# Altium schematic symbol library jlcpcb_2025_04_resistors_extended_1812.schlib: 557 symbols (part 1 of 9)
Pins are listed as number, name and electrical type; pins without a type are passive.

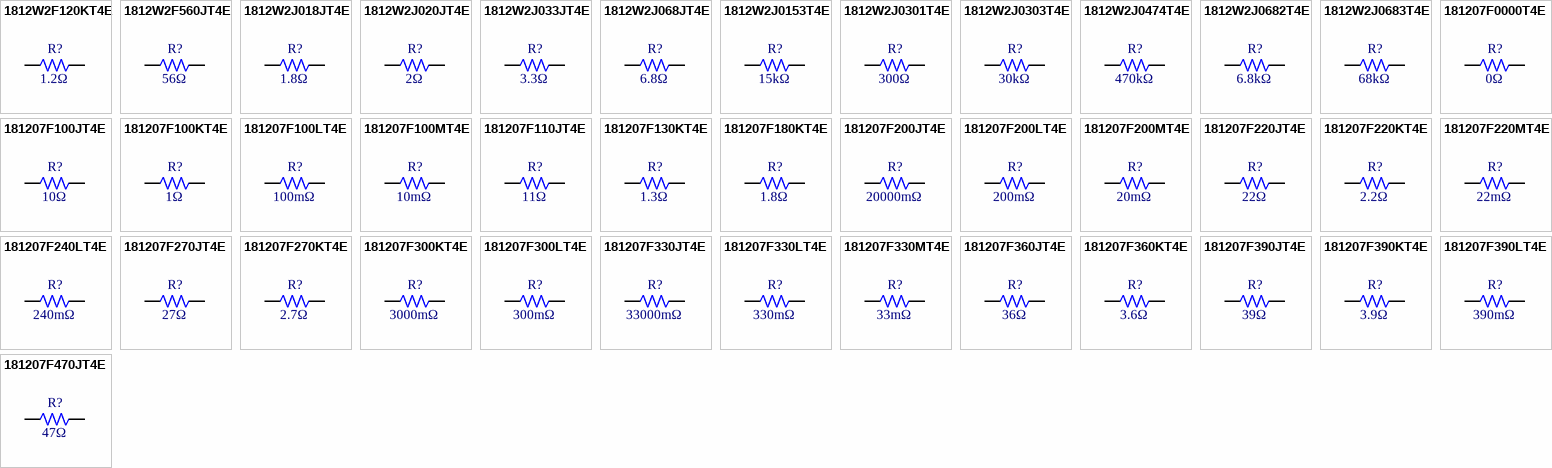
[diagram p0: symbols 1812W2F120KT4E to 181207F470JT4E]

## 1812W2F120KT4E
designator R?  Resistance: 1.2Ω  (hidden comment: *)
Resistor, 1.2Ω, ±1%, 500mW, 200V, ±200ppm/℃, -55℃~+155℃, SMD 1812; Manufacturer: Uniroyal; Manufacturer Part Number: 1812W2F120KT4E; Supplier 1: LCSC; Supplier Part Number 1: C21617; JLCPCB Part Number: C21617; Power Rating: 500mW; Category: Resistors; Package Size: 1812; JLCPCB Basic Part: Yes; Tolerance: ±1%; Voltage Rating: 200V; Temperature Coefficient: ±200ppm/℃; Temperature Rating: -55℃~+155℃; ComponentLink1Description: Datasheet; ComponentLink1URL: https://wmsc.lcsc.com/wmsc/upload/file/pdf/v2/lcsc/2206010130_UNI-ROYAL-Uniroyal-Elec-1812W2F120KT4E_C21617.pdf; ComponentLink2Description: JLCPCB Part URL; ComponentLink2URL: https://jlcpcb.com/partdetail/C21617
pins: 1, 2
1 alternate drawing of the same symbol

## 1812W2F560JT4E
designator R?  Resistance: 56Ω  (hidden comment: *)
Resistor, 56Ω, ±1%, 500mW, 200V, ±200ppm/℃, -55℃~+155℃, SMD 1812; Manufacturer: Uniroyal; Manufacturer Part Number: 1812W2F560JT4E; Supplier 1: LCSC; Supplier Part Number 1: C107596; JLCPCB Part Number: C107596; Power Rating: 500mW; Category: Resistors; Package Size: 1812; JLCPCB Basic Part: Yes; Tolerance: ±1%; Voltage Rating: 200V; Temperature Coefficient: ±200ppm/℃; Temperature Rating: -55℃~+155℃; ComponentLink1Description: Datasheet; ComponentLink1URL: https://wmsc.lcsc.com/wmsc/upload/file/pdf/v2/lcsc/2205312316_UNI-ROYAL-Uniroyal-Elec-1812W2F560JT4E_C107596.pdf; ComponentLink2Description: JLCPCB Part URL; ComponentLink2URL: https://jlcpcb.com/partdetail/C107596
pins: 1, 2
1 alternate drawing of the same symbol

## 1812W2J018JT4E
designator R?  Resistance: 1.8Ω  (hidden comment: *)
Resistor, 1.8Ω, ±5%, 500mW, 200V, ±200ppm/℃, -55℃~+155℃, SMD 1812; Manufacturer: Uniroyal; Manufacturer Part Number: 1812W2J018JT4E; Supplier 1: LCSC; Supplier Part Number 1: C25455; JLCPCB Part Number: C25455; Power Rating: 500mW; Category: Resistors; Package Size: 1812; JLCPCB Basic Part: Yes; Tolerance: ±5%; Voltage Rating: 200V; Temperature Coefficient: ±200ppm/℃; Temperature Rating: -55℃~+155℃; ComponentLink1Description: Datasheet; ComponentLink1URL: https://wmsc.lcsc.com/wmsc/upload/file/pdf/v2/lcsc/2205311845_UNI-ROYAL-Uniroyal-Elec-1812W2J018JT4E_C25455.pdf; ComponentLink2Description: JLCPCB Part URL; ComponentLink2URL: https://jlcpcb.com/partdetail/C25455
pins: 1, 2
1 alternate drawing of the same symbol

## 1812W2J020JT4E
designator R?  Resistance: 2Ω  (hidden comment: *)
Resistor, 2Ω, ±5%, 500mW, 200V, ±200ppm/℃, -55℃~+155℃, SMD 1812; Manufacturer: Uniroyal; Manufacturer Part Number: 1812W2J020JT4E; Supplier 1: LCSC; Supplier Part Number 1: C61435; JLCPCB Part Number: C61435; Power Rating: 500mW; Category: Resistors; Package Size: 1812; JLCPCB Basic Part: Yes; Tolerance: ±5%; Voltage Rating: 200V; Temperature Coefficient: ±200ppm/℃; Temperature Rating: -55℃~+155℃; ComponentLink1Description: Datasheet; ComponentLink1URL: https://wmsc.lcsc.com/wmsc/upload/file/pdf/v2/lcsc/2205312345_UNI-ROYAL-Uniroyal-Elec-1812W2J020JT4E_C61435.pdf; ComponentLink2Description: JLCPCB Part URL; ComponentLink2URL: https://jlcpcb.com/partdetail/C61435
pins: 1, 2
1 alternate drawing of the same symbol

## 1812W2J033JT4E
designator R?  Resistance: 3.3Ω  (hidden comment: *)
Resistor, 3.3Ω, ±5%, 500mW, 200V, ±200ppm/℃, -55℃~+155℃, SMD 1812; Manufacturer: Uniroyal; Manufacturer Part Number: 1812W2J033JT4E; Supplier 1: LCSC; Supplier Part Number 1: C61431; JLCPCB Part Number: C61431; Power Rating: 500mW; Category: Resistors; Package Size: 1812; JLCPCB Basic Part: Yes; Tolerance: ±5%; Voltage Rating: 200V; Temperature Coefficient: ±200ppm/℃; Temperature Rating: -55℃~+155℃; ComponentLink1Description: Datasheet; ComponentLink1URL: https://wmsc.lcsc.com/wmsc/upload/file/pdf/v2/lcsc/2205312345_UNI-ROYAL-Uniroyal-Elec-1812W2J033JT4E_C61431.pdf; ComponentLink2Description: JLCPCB Part URL; ComponentLink2URL: https://jlcpcb.com/partdetail/C61431
pins: 1, 2
1 alternate drawing of the same symbol

## 1812W2J068JT4E
designator R?  Resistance: 6.8Ω  (hidden comment: *)
Resistor, 6.8Ω, ±5%, 500mW, 200V, ±400ppm/℃, -55℃~+155℃, SMD 1812; Manufacturer: Uniroyal; Manufacturer Part Number: 1812W2J068JT4E; Supplier 1: LCSC; Supplier Part Number 1: C25457; JLCPCB Part Number: C25457; Power Rating: 500mW; Category: Resistors; Package Size: 1812; JLCPCB Basic Part: Yes; Tolerance: ±5%; Voltage Rating: 200V; Temperature Coefficient: ±400ppm/℃; Temperature Rating: -55℃~+155℃; ComponentLink1Description: Datasheet; ComponentLink1URL: https://wmsc.lcsc.com/wmsc/upload/file/pdf/v2/lcsc/2205311845_UNI-ROYAL-Uniroyal-Elec-1812W2J068JT4E_C25457.pdf; ComponentLink2Description: JLCPCB Part URL; ComponentLink2URL: https://jlcpcb.com/partdetail/C25457
pins: 1, 2
1 alternate drawing of the same symbol

## 1812W2J0153T4E
designator R?  Resistance: 15kΩ  (hidden comment: *)
Resistor, 15kΩ, ±5%, 500mW, 200V, ±100ppm/℃, -55℃~+155℃, SMD 1812; Manufacturer: Uniroyal; Manufacturer Part Number: 1812W2J0153T4E; Supplier 1: LCSC; Supplier Part Number 1: C25713; JLCPCB Part Number: C25713; Power Rating: 500mW; Category: Resistors; Package Size: 1812; JLCPCB Basic Part: Yes; Tolerance: ±5%; Voltage Rating: 200V; Temperature Coefficient: ±100ppm/℃; Temperature Rating: -55℃~+155℃; ComponentLink1Description: Datasheet; ComponentLink1URL: https://wmsc.lcsc.com/wmsc/upload/file/pdf/v2/lcsc/2206010100_UNI-ROYAL-Uniroyal-Elec-1812W2J0153T4E_C25713.pdf; ComponentLink2Description: JLCPCB Part URL; ComponentLink2URL: https://jlcpcb.com/partdetail/C25713
pins: 1, 2
1 alternate drawing of the same symbol

## 1812W2J0301T4E
designator R?  Resistance: 300Ω  (hidden comment: *)
Resistor, 300Ω, ±5%, 500mW, 200V, ±100ppm/℃, -55℃~+155℃, SMD 1812; Manufacturer: Uniroyal; Manufacturer Part Number: 1812W2J0301T4E; Supplier 1: LCSC; Supplier Part Number 1: C109215; JLCPCB Part Number: C109215; Power Rating: 500mW; Category: Resistors; Package Size: 1812; JLCPCB Basic Part: Yes; Tolerance: ±5%; Voltage Rating: 200V; Temperature Coefficient: ±100ppm/℃; Temperature Rating: -55℃~+155℃; ComponentLink1Description: Datasheet; ComponentLink1URL: https://wmsc.lcsc.com/wmsc/upload/file/pdf/v2/lcsc/2205312316_UNI-ROYAL-Uniroyal-Elec-1812W2J0301T4E_C109215.pdf; ComponentLink2Description: JLCPCB Part URL; ComponentLink2URL: https://jlcpcb.com/partdetail/C109215
pins: 1, 2
1 alternate drawing of the same symbol

## 1812W2J0303T4E
designator R?  Resistance: 30kΩ  (hidden comment: *)
Resistor, 30kΩ, ±5%, 500mW, 200V, ±100ppm/℃, -55℃~+155℃, SMD 1812; Manufacturer: Uniroyal; Manufacturer Part Number: 1812W2J0303T4E; Supplier 1: LCSC; Supplier Part Number 1: C109214; JLCPCB Part Number: C109214; Power Rating: 500mW; Category: Resistors; Package Size: 1812; JLCPCB Basic Part: Yes; Tolerance: ±5%; Voltage Rating: 200V; Temperature Coefficient: ±100ppm/℃; Temperature Rating: -55℃~+155℃; ComponentLink1Description: Datasheet; ComponentLink1URL: https://wmsc.lcsc.com/wmsc/upload/file/pdf/v2/lcsc/2205312316_UNI-ROYAL-Uniroyal-Elec-1812W2J0303T4E_C109214.pdf; ComponentLink2Description: JLCPCB Part URL; ComponentLink2URL: https://jlcpcb.com/partdetail/C109214
pins: 1, 2
1 alternate drawing of the same symbol

## 1812W2J0474T4E
designator R?  Resistance: 470kΩ  (hidden comment: *)
Resistor, 470kΩ, ±5%, 500mW, 200V, ±100ppm/℃, -55℃~+155℃, SMD 1812; Manufacturer: Uniroyal; Manufacturer Part Number: 1812W2J0474T4E; Supplier 1: LCSC; Supplier Part Number 1: C80761; JLCPCB Part Number: C80761; Power Rating: 500mW; Category: Resistors; Package Size: 1812; JLCPCB Basic Part: Yes; Tolerance: ±5%; Voltage Rating: 200V; Temperature Coefficient: ±100ppm/℃; Temperature Rating: -55℃~+155℃; ComponentLink1Description: Datasheet; ComponentLink1URL: https://wmsc.lcsc.com/wmsc/upload/file/pdf/v2/lcsc/2205312316_UNI-ROYAL-Uniroyal-Elec-1812W2J0474T4E_C80761.pdf; ComponentLink2Description: JLCPCB Part URL; ComponentLink2URL: https://jlcpcb.com/partdetail/C80761
pins: 1, 2
1 alternate drawing of the same symbol

## 1812W2J0682T4E
designator R?  Resistance: 6.8kΩ  (hidden comment: *)
Resistor, 6.8kΩ, ±5%, 500mW, 200V, ±100ppm/℃, -55℃~+155℃, SMD 1812; Manufacturer: Uniroyal; Manufacturer Part Number: 1812W2J0682T4E; Supplier 1: LCSC; Supplier Part Number 1: C26070; JLCPCB Part Number: C26070; Power Rating: 500mW; Category: Resistors; Package Size: 1812; JLCPCB Basic Part: Yes; Tolerance: ±5%; Voltage Rating: 200V; Temperature Coefficient: ±100ppm/℃; Temperature Rating: -55℃~+155℃; ComponentLink1Description: Datasheet; ComponentLink1URL: https://wmsc.lcsc.com/wmsc/upload/file/pdf/v2/lcsc/2206010030_UNI-ROYAL-Uniroyal-Elec-1812W2J0682T4E_C26070.pdf; ComponentLink2Description: JLCPCB Part URL; ComponentLink2URL: https://jlcpcb.com/partdetail/C26070
pins: 1, 2
1 alternate drawing of the same symbol

## 1812W2J0683T4E
designator R?  Resistance: 68kΩ  (hidden comment: *)
Resistor, 68kΩ, ±5%, 500mW, 200V, ±100ppm/℃, -55℃~+155℃, SMD 1812; Manufacturer: Uniroyal; Manufacturer Part Number: 1812W2J0683T4E; Supplier 1: LCSC; Supplier Part Number 1: C82936; JLCPCB Part Number: C82936; Power Rating: 500mW; Category: Resistors; Package Size: 1812; JLCPCB Basic Part: Yes; Tolerance: ±5%; Voltage Rating: 200V; Temperature Coefficient: ±100ppm/℃; Temperature Rating: -55℃~+155℃; ComponentLink1Description: Datasheet; ComponentLink1URL: https://wmsc.lcsc.com/wmsc/upload/file/pdf/v2/lcsc/2304140030_UNI-ROYAL-Uniroyal-Elec-1812W2J0683T4E_C82936.pdf; ComponentLink2Description: JLCPCB Part URL; ComponentLink2URL: https://jlcpcb.com/partdetail/C82936
pins: 1, 2
1 alternate drawing of the same symbol

## 181207F0000T4E
designator R?  Resistance: 0Ω  (hidden comment: *)
Resistor, 0Ω, ±1%, 750mW, 200V, -55℃~+155℃, SMD 1812; Manufacturer: Uniroyal; Manufacturer Part Number: 181207F0000T4E; Supplier 1: LCSC; Supplier Part Number 1: C422161; JLCPCB Part Number: C422161; Power Rating: 750mW; Category: Resistors; Package Size: 1812; JLCPCB Basic Part: Yes; Tolerance: ±1%; Voltage Rating: 200V; Temperature Rating: -55℃~+155℃; ComponentLink1Description: Datasheet; ComponentLink1URL: https://wmsc.lcsc.com/wmsc/upload/file/pdf/v2/lcsc/2304140030_UNI-ROYAL-Uniroyal-Elec-181207F0000T4E_C422161.pdf; ComponentLink2Description: JLCPCB Part URL; ComponentLink2URL: https://jlcpcb.com/partdetail/C422161
pins: 1, 2
1 alternate drawing of the same symbol

## 181207F100JT4E
designator R?  Resistance: 10Ω  (hidden comment: *)
Resistor, 10Ω, ±1%, 750mW, 200V, ±200ppm/℃, -55℃~+155℃, SMD 1812; Manufacturer: Uniroyal; Manufacturer Part Number: 181207F100JT4E; Supplier 1: LCSC; Supplier Part Number 1: C42962; JLCPCB Part Number: C42962; Power Rating: 750mW; Category: Resistors; Package Size: 1812; JLCPCB Basic Part: Yes; Tolerance: ±1%; Voltage Rating: 200V; Temperature Coefficient: ±200ppm/℃; Temperature Rating: -55℃~+155℃; ComponentLink1Description: Datasheet; ComponentLink1URL: https://wmsc.lcsc.com/wmsc/upload/file/pdf/v2/lcsc/2206010000_UNI-ROYAL-Uniroyal-Elec-181207F100JT4E_C42962.pdf; ComponentLink2Description: JLCPCB Part URL; ComponentLink2URL: https://jlcpcb.com/partdetail/C42962
pins: 1, 2
1 alternate drawing of the same symbol

## 181207F100KT4E
designator R?  Resistance: 1Ω  (hidden comment: *)
Resistor, 1Ω, ±1%, 750mW, 200V, ±400ppm/℃, -55℃~+155℃, SMD 1812; Manufacturer: Uniroyal; Manufacturer Part Number: 181207F100KT4E; Supplier 1: LCSC; Supplier Part Number 1: C42963; JLCPCB Part Number: C42963; Power Rating: 750mW; Category: Resistors; Package Size: 1812; JLCPCB Basic Part: Yes; Tolerance: ±1%; Voltage Rating: 200V; Temperature Coefficient: ±400ppm/℃; Temperature Rating: -55℃~+155℃; ComponentLink1Description: Datasheet; ComponentLink1URL: https://wmsc.lcsc.com/wmsc/upload/file/pdf/v2/lcsc/2206010000_UNI-ROYAL-Uniroyal-Elec-181207F100KT4E_C42963.pdf; ComponentLink2Description: JLCPCB Part URL; ComponentLink2URL: https://jlcpcb.com/partdetail/C42963
pins: 1, 2
1 alternate drawing of the same symbol

## 181207F100LT4E
designator R?  Resistance: 100mΩ  (hidden comment: *)
Resistor, 100mΩ, ±1%, 750mW, 200V, ±800ppm/℃, -55℃~+155℃, SMD 1812; Manufacturer: Uniroyal; Manufacturer Part Number: 181207F100LT4E; Supplier 1: LCSC; Supplier Part Number 1: C473601; JLCPCB Part Number: C473601; Power Rating: 750mW; Category: Resistors; Package Size: 1812; JLCPCB Basic Part: Yes; Tolerance: ±1%; Voltage Rating: 200V; Temperature Coefficient: ±800ppm/℃; Temperature Rating: -55℃~+155℃; ComponentLink1Description: Datasheet; ComponentLink1URL: https://wmsc.lcsc.com/wmsc/upload/file/pdf/v2/lcsc/2206011100_UNI-ROYAL-Uniroyal-Elec-181207F100LT4E_C473601.pdf; ComponentLink2Description: JLCPCB Part URL; ComponentLink2URL: https://jlcpcb.com/partdetail/C473601
pins: 1, 2
1 alternate drawing of the same symbol

## 181207F100MT4E
designator R?  Resistance: 10mΩ  (hidden comment: *)
Resistor, 10mΩ, ±1%, 750mW, 200V, -55℃~+155℃, SMD 1812; Manufacturer: Uniroyal; Manufacturer Part Number: 181207F100MT4E; Supplier 1: LCSC; Supplier Part Number 1: C422157; JLCPCB Part Number: C422157; Power Rating: 750mW; Category: Resistors; Package Size: 1812; JLCPCB Basic Part: Yes; Tolerance: ±1%; Voltage Rating: 200V; Temperature Rating: -55℃~+155℃; ComponentLink1Description: Datasheet; ComponentLink1URL: https://wmsc.lcsc.com/wmsc/upload/file/pdf/v2/lcsc/2212222108_UNI-ROYAL-Uniroyal-Elec-181207F100MT4E_C422157.pdf; ComponentLink2Description: JLCPCB Part URL; ComponentLink2URL: https://jlcpcb.com/partdetail/C422157
pins: 1, 2
1 alternate drawing of the same symbol

## 181207F110JT4E
designator R?  Resistance: 11Ω  (hidden comment: *)
Resistor, 11Ω, ±1%, 750mW, 200V, ±100ppm/℃, -55℃~+155℃, SMD 1812; Manufacturer: Uniroyal; Manufacturer Part Number: 181207F110JT4E; Supplier 1: LCSC; Supplier Part Number 1: C422156; JLCPCB Part Number: C422156; Power Rating: 750mW; Category: Resistors; Package Size: 1812; JLCPCB Basic Part: Yes; Tolerance: ±1%; Voltage Rating: 200V; Temperature Coefficient: ±100ppm/℃; Temperature Rating: -55℃~+155℃; ComponentLink1Description: Datasheet; ComponentLink1URL: https://wmsc.lcsc.com/wmsc/upload/file/pdf/v2/lcsc/2205312245_UNI-ROYAL-Uniroyal-Elec-181207F110JT4E_C422156.pdf; ComponentLink2Description: JLCPCB Part URL; ComponentLink2URL: https://jlcpcb.com/partdetail/C422156
pins: 1, 2
1 alternate drawing of the same symbol

## 181207F130KT4E
designator R?  Resistance: 1.3Ω  (hidden comment: *)
Resistor, 1.3Ω, ±1%, 750mW, 200V, ±200ppm/℃, -55℃~+155℃, SMD 1812; Manufacturer: Uniroyal; Manufacturer Part Number: 181207F130KT4E; Supplier 1: LCSC; Supplier Part Number 1: C422149; JLCPCB Part Number: C422149; Power Rating: 750mW; Category: Resistors; Package Size: 1812; JLCPCB Basic Part: Yes; Tolerance: ±1%; Voltage Rating: 200V; Temperature Coefficient: ±200ppm/℃; Temperature Rating: -55℃~+155℃; ComponentLink1Description: Datasheet; ComponentLink1URL: https://wmsc.lcsc.com/wmsc/upload/file/pdf/v2/lcsc/2205312245_UNI-ROYAL-Uniroyal-Elec-181207F130KT4E_C422149.pdf; ComponentLink2Description: JLCPCB Part URL; ComponentLink2URL: https://jlcpcb.com/partdetail/C422149
pins: 1, 2
1 alternate drawing of the same symbol

## 181207F180KT4E
designator R?  Resistance: 1.8Ω  (hidden comment: *)
Resistor, 1.8Ω, ±1%, 750mW, 200V, ±200ppm/℃, -55℃~+155℃, SMD 1812; Manufacturer: Uniroyal; Manufacturer Part Number: 181207F180KT4E; Supplier 1: LCSC; Supplier Part Number 1: C422138; JLCPCB Part Number: C422138; Power Rating: 750mW; Category: Resistors; Package Size: 1812; JLCPCB Basic Part: Yes; Tolerance: ±1%; Voltage Rating: 200V; Temperature Coefficient: ±200ppm/℃; Temperature Rating: -55℃~+155℃; ComponentLink1Description: Datasheet; ComponentLink1URL: https://wmsc.lcsc.com/wmsc/upload/file/pdf/v2/lcsc/2205312245_UNI-ROYAL-Uniroyal-Elec-181207F180KT4E_C422138.pdf; ComponentLink2Description: JLCPCB Part URL; ComponentLink2URL: https://jlcpcb.com/partdetail/C422138
pins: 1, 2
1 alternate drawing of the same symbol

## 181207F200JT4E
designator R?  Resistance: 20000mΩ  (hidden comment: *)
Resistor, 20000mΩ, ±1%, 750mW, 200V, ±100ppm/℃, -55℃~+155℃, SMD 1812; Manufacturer: Uniroyal; Manufacturer Part Number: 181207F200JT4E; Supplier 1: LCSC; Supplier Part Number 1: C422134; JLCPCB Part Number: C422134; Power Rating: 750mW; Category: Resistors; Package Size: 1812; JLCPCB Basic Part: Yes; Tolerance: ±1%; Voltage Rating: 200V; Temperature Coefficient: ±100ppm/℃; Temperature Rating: -55℃~+155℃; ComponentLink1Description: Datasheet; ComponentLink1URL: https://wmsc.lcsc.com/wmsc/upload/file/pdf/v2/lcsc/2304140030_UNI-ROYAL-Uniroyal-Elec-181207F200JT4E_C422134.pdf; ComponentLink2Description: JLCPCB Part URL; ComponentLink2URL: https://jlcpcb.com/partdetail/C422134
pins: 1, 2
1 alternate drawing of the same symbol

## 181207F200LT4E
designator R?  Resistance: 200mΩ  (hidden comment: *)
Resistor, 200mΩ, ±1%, 750mW, 200V, ±800ppm/℃, -55℃~+155℃, SMD 1812; Manufacturer: Uniroyal; Manufacturer Part Number: 181207F200LT4E; Supplier 1: LCSC; Supplier Part Number 1: C422133; JLCPCB Part Number: C422133; Power Rating: 750mW; Category: Resistors; Package Size: 1812; JLCPCB Basic Part: Yes; Tolerance: ±1%; Voltage Rating: 200V; Temperature Coefficient: ±800ppm/℃; Temperature Rating: -55℃~+155℃; ComponentLink1Description: Datasheet; ComponentLink1URL: https://wmsc.lcsc.com/wmsc/upload/file/pdf/v2/lcsc/2206011116_UNI-ROYAL-Uniroyal-Elec-181207F200LT4E_C422133.pdf; ComponentLink2Description: JLCPCB Part URL; ComponentLink2URL: https://jlcpcb.com/partdetail/C422133
pins: 1, 2
1 alternate drawing of the same symbol

## 181207F200MT4E
designator R?  Resistance: 20mΩ  (hidden comment: *)
Resistor, 20mΩ, ±1%, 750mW, 200V, ±1000ppm/℃, -55℃~+155℃, SMD 1812; Manufacturer: Uniroyal; Manufacturer Part Number: 181207F200MT4E; Supplier 1: LCSC; Supplier Part Number 1: C2768407; JLCPCB Part Number: C2768407; Power Rating: 750mW; Category: Resistors; Package Size: 1812; JLCPCB Basic Part: Yes; Tolerance: ±1%; Voltage Rating: 200V; Temperature Coefficient: ±1000ppm/℃; Temperature Rating: -55℃~+155℃; ComponentLink1Description: Datasheet; ComponentLink1URL: https://wmsc.lcsc.com/wmsc/upload/file/pdf/v2/lcsc/2206011000_UNI-ROYAL-Uniroyal-Elec-181207F200MT4E_C2768407.pdf; ComponentLink2Description: JLCPCB Part URL; ComponentLink2URL: https://jlcpcb.com/partdetail/C2768407
pins: 1, 2
1 alternate drawing of the same symbol

## 181207F220JT4E
designator R?  Resistance: 22Ω  (hidden comment: *)
Resistor, 22Ω, ±1%, 750mW, 200V, ±100ppm/℃, -55℃~+155℃, SMD 1812; Manufacturer: Uniroyal; Manufacturer Part Number: 181207F220JT4E; Supplier 1: LCSC; Supplier Part Number 1: C422128; JLCPCB Part Number: C422128; Power Rating: 750mW; Category: Resistors; Package Size: 1812; JLCPCB Basic Part: Yes; Tolerance: ±1%; Voltage Rating: 200V; Temperature Coefficient: ±100ppm/℃; Temperature Rating: -55℃~+155℃; ComponentLink1Description: Datasheet; ComponentLink1URL: https://wmsc.lcsc.com/wmsc/upload/file/pdf/v2/lcsc/2205312016_UNI-ROYAL-Uniroyal-Elec-181207F220JT4E_C422128.pdf; ComponentLink2Description: JLCPCB Part URL; ComponentLink2URL: https://jlcpcb.com/partdetail/C422128
pins: 1, 2
1 alternate drawing of the same symbol

## 181207F220KT4E
designator R?  Resistance: 2.2Ω  (hidden comment: *)
Resistor, 2.2Ω, ±1%, 750mW, 200V, ±200ppm/℃, -55℃~+155℃, SMD 1812; Manufacturer: Uniroyal; Manufacturer Part Number: 181207F220KT4E; Supplier 1: LCSC; Supplier Part Number 1: C422127; JLCPCB Part Number: C422127; Power Rating: 750mW; Category: Resistors; Package Size: 1812; JLCPCB Basic Part: Yes; Tolerance: ±1%; Voltage Rating: 200V; Temperature Coefficient: ±200ppm/℃; Temperature Rating: -55℃~+155℃; ComponentLink1Description: Datasheet; ComponentLink1URL: https://wmsc.lcsc.com/wmsc/upload/file/pdf/v2/lcsc/2205312016_UNI-ROYAL-Uniroyal-Elec-181207F220KT4E_C422127.pdf; ComponentLink2Description: JLCPCB Part URL; ComponentLink2URL: https://jlcpcb.com/partdetail/C422127
pins: 1, 2
1 alternate drawing of the same symbol

## 181207F220MT4E
designator R?  Resistance: 22mΩ  (hidden comment: *)
Resistor, 22mΩ, ±1%, 750mW, 200V, -55℃~+155℃, SMD 1812; Manufacturer: Uniroyal; Manufacturer Part Number: 181207F220MT4E; Supplier 1: LCSC; Supplier Part Number 1: C422126; JLCPCB Part Number: C422126; Power Rating: 750mW; Category: Resistors; Package Size: 1812; JLCPCB Basic Part: Yes; Tolerance: ±1%; Voltage Rating: 200V; Temperature Rating: -55℃~+155℃; ComponentLink1Description: Datasheet; ComponentLink1URL: https://wmsc.lcsc.com/wmsc/upload/file/pdf/v2/lcsc/2212222108_UNI-ROYAL-Uniroyal-Elec-181207F220MT4E_C422126.pdf; ComponentLink2Description: JLCPCB Part URL; ComponentLink2URL: https://jlcpcb.com/partdetail/C422126
pins: 1, 2
1 alternate drawing of the same symbol

## 181207F240LT4E
designator R?  Resistance: 240mΩ  (hidden comment: *)
Resistor, 240mΩ, ±1%, 750mW, 200V, ±800ppm/℃, -55℃~+155℃, SMD 1812; Manufacturer: Uniroyal; Manufacturer Part Number: 181207F240LT4E; Supplier 1: LCSC; Supplier Part Number 1: C422121; JLCPCB Part Number: C422121; Power Rating: 750mW; Category: Resistors; Package Size: 1812; JLCPCB Basic Part: Yes; Tolerance: ±1%; Voltage Rating: 200V; Temperature Coefficient: ±800ppm/℃; Temperature Rating: -55℃~+155℃; ComponentLink1Description: Datasheet; ComponentLink1URL: https://wmsc.lcsc.com/wmsc/upload/file/pdf/v2/lcsc/2205312016_UNI-ROYAL-Uniroyal-Elec-181207F240LT4E_C422121.pdf; ComponentLink2Description: JLCPCB Part URL; ComponentLink2URL: https://jlcpcb.com/partdetail/C422121
pins: 1, 2
1 alternate drawing of the same symbol

## 181207F270JT4E
designator R?  Resistance: 27Ω  (hidden comment: *)
Resistor, 27Ω, ±1%, 750mW, 200V, ±100ppm/℃, -55℃~+155℃, SMD 1812; Manufacturer: Uniroyal; Manufacturer Part Number: 181207F270JT4E; Supplier 1: LCSC; Supplier Part Number 1: C422115; JLCPCB Part Number: C422115; Power Rating: 750mW; Category: Resistors; Package Size: 1812; JLCPCB Basic Part: Yes; Tolerance: ±1%; Voltage Rating: 200V; Temperature Coefficient: ±100ppm/℃; Temperature Rating: -55℃~+155℃; ComponentLink1Description: Datasheet; ComponentLink1URL: https://wmsc.lcsc.com/wmsc/upload/file/pdf/v2/lcsc/2205312016_UNI-ROYAL-Uniroyal-Elec-181207F270JT4E_C422115.pdf; ComponentLink2Description: JLCPCB Part URL; ComponentLink2URL: https://jlcpcb.com/partdetail/C422115
pins: 1, 2
1 alternate drawing of the same symbol

## 181207F270KT4E
designator R?  Resistance: 2.7Ω  (hidden comment: *)
Resistor, 2.7Ω, ±1%, 750mW, 200V, ±400ppm/℃, -55℃~+155℃, SMD 1812; Manufacturer: Uniroyal; Manufacturer Part Number: 181207F270KT4E; Supplier 1: LCSC; Supplier Part Number 1: C422114; JLCPCB Part Number: C422114; Power Rating: 750mW; Category: Resistors; Package Size: 1812; JLCPCB Basic Part: Yes; Tolerance: ±1%; Voltage Rating: 200V; Temperature Coefficient: ±400ppm/℃; Temperature Rating: -55℃~+155℃; ComponentLink1Description: Datasheet; ComponentLink1URL: https://wmsc.lcsc.com/wmsc/upload/file/pdf/v2/lcsc/2205312016_UNI-ROYAL-Uniroyal-Elec-181207F270KT4E_C422114.pdf; ComponentLink2Description: JLCPCB Part URL; ComponentLink2URL: https://jlcpcb.com/partdetail/C422114
pins: 1, 2
1 alternate drawing of the same symbol

## 181207F300KT4E
designator R?  Resistance: 3000mΩ  (hidden comment: *)
Resistor, 3000mΩ, ±1%, 750mW, 200V, -55℃~+155℃, SMD 1812; Manufacturer: Uniroyal; Manufacturer Part Number: 181207F300KT4E; Supplier 1: LCSC; Supplier Part Number 1: C407125; JLCPCB Part Number: C407125; Power Rating: 750mW; Category: Resistors; Package Size: 1812; JLCPCB Basic Part: Yes; Tolerance: ±1%; Voltage Rating: 200V; Temperature Rating: -55℃~+155℃; ComponentLink1Description: Datasheet; ComponentLink1URL: https://wmsc.lcsc.com/wmsc/upload/file/pdf/v2/lcsc/2206011116_UNI-ROYAL-Uniroyal-Elec-181207F300KT4E_C407125.pdf; ComponentLink2Description: JLCPCB Part URL; ComponentLink2URL: https://jlcpcb.com/partdetail/C407125
pins: 1, 2
1 alternate drawing of the same symbol

## 181207F300LT4E
designator R?  Resistance: 300mΩ  (hidden comment: *)
Resistor, 300mΩ, ±1%, 750mW, 200V, -55℃~+155℃, SMD 1812; Manufacturer: Uniroyal; Manufacturer Part Number: 181207F300LT4E; Supplier 1: LCSC; Supplier Part Number 1: C422109; JLCPCB Part Number: C422109; Power Rating: 750mW; Category: Resistors; Package Size: 1812; JLCPCB Basic Part: Yes; Tolerance: ±1%; Voltage Rating: 200V; Temperature Rating: -55℃~+155℃; ComponentLink1Description: Datasheet; ComponentLink1URL: https://wmsc.lcsc.com/wmsc/upload/file/pdf/v2/lcsc/2211141030_UNI-ROYAL-Uniroyal-Elec-181207F300LT4E_C422109.pdf; ComponentLink2Description: JLCPCB Part URL; ComponentLink2URL: https://jlcpcb.com/partdetail/C422109
pins: 1, 2
1 alternate drawing of the same symbol

## 181207F330JT4E
designator R?  Resistance: 33000mΩ  (hidden comment: *)
Resistor, 33000mΩ, ±1%, 750mW, 200V, -55℃~+155℃, SMD 1812; Manufacturer: Uniroyal; Manufacturer Part Number: 181207F330JT4E; Supplier 1: LCSC; Supplier Part Number 1: C407123; JLCPCB Part Number: C407123; Power Rating: 750mW; Category: Resistors; Package Size: 1812; JLCPCB Basic Part: Yes; Tolerance: ±1%; Voltage Rating: 200V; Temperature Rating: -55℃~+155℃; ComponentLink1Description: Datasheet; ComponentLink1URL: https://wmsc.lcsc.com/wmsc/upload/file/pdf/v2/lcsc/2212191030_UNI-ROYAL-Uniroyal-Elec-181207F330JT4E_C407123.pdf; ComponentLink2Description: JLCPCB Part URL; ComponentLink2URL: https://jlcpcb.com/partdetail/C407123
pins: 1, 2
1 alternate drawing of the same symbol

## 181207F330LT4E
designator R?  Resistance: 330mΩ  (hidden comment: *)
Resistor, 330mΩ, ±1%, 750mW, 200V, -55℃~+155℃, SMD 1812; Manufacturer: Uniroyal; Manufacturer Part Number: 181207F330LT4E; Supplier 1: LCSC; Supplier Part Number 1: C407122; JLCPCB Part Number: C407122; Power Rating: 750mW; Category: Resistors; Package Size: 1812; JLCPCB Basic Part: Yes; Tolerance: ±1%; Voltage Rating: 200V; Temperature Rating: -55℃~+155℃; ComponentLink1Description: Datasheet; ComponentLink1URL: https://wmsc.lcsc.com/wmsc/upload/file/pdf/v2/lcsc/2212191030_UNI-ROYAL-Uniroyal-Elec-181207F330LT4E_C407122.pdf; ComponentLink2Description: JLCPCB Part URL; ComponentLink2URL: https://jlcpcb.com/partdetail/C407122
pins: 1, 2
1 alternate drawing of the same symbol

## 181207F330MT4E
designator R?  Resistance: 33mΩ  (hidden comment: *)
Resistor, 33mΩ, ±1%, 750mW, 200V, -55℃~+155℃, SMD 1812; Manufacturer: Uniroyal; Manufacturer Part Number: 181207F330MT4E; Supplier 1: LCSC; Supplier Part Number 1: C422105; JLCPCB Part Number: C422105; Power Rating: 750mW; Category: Resistors; Package Size: 1812; JLCPCB Basic Part: Yes; Tolerance: ±1%; Voltage Rating: 200V; Temperature Rating: -55℃~+155℃; ComponentLink1Description: Datasheet; ComponentLink1URL: https://wmsc.lcsc.com/wmsc/upload/file/pdf/v2/lcsc/2211141030_UNI-ROYAL-Uniroyal-Elec-181207F330MT4E_C422105.pdf; ComponentLink2Description: JLCPCB Part URL; ComponentLink2URL: https://jlcpcb.com/partdetail/C422105
pins: 1, 2
1 alternate drawing of the same symbol

## 181207F360JT4E
designator R?  Resistance: 36Ω  (hidden comment: *)
Resistor, 36Ω, ±1%, 750mW, 200V, ±100ppm/℃, -55℃~+155℃, SMD 1812; Manufacturer: Uniroyal; Manufacturer Part Number: 181207F360JT4E; Supplier 1: LCSC; Supplier Part Number 1: C422098; JLCPCB Part Number: C422098; Power Rating: 750mW; Category: Resistors; Package Size: 1812; JLCPCB Basic Part: Yes; Tolerance: ±1%; Voltage Rating: 200V; Temperature Coefficient: ±100ppm/℃; Temperature Rating: -55℃~+155℃; ComponentLink1Description: Datasheet; ComponentLink1URL: https://wmsc.lcsc.com/wmsc/upload/file/pdf/v2/lcsc/2205312016_UNI-ROYAL-Uniroyal-Elec-181207F360JT4E_C422098.pdf; ComponentLink2Description: JLCPCB Part URL; ComponentLink2URL: https://jlcpcb.com/partdetail/C422098
pins: 1, 2
1 alternate drawing of the same symbol

## 181207F360KT4E
designator R?  Resistance: 3.6Ω  (hidden comment: *)
Resistor, 3.6Ω, ±1%, 750mW, 200V, ±400ppm/℃, -55℃~+155℃, SMD 1812; Manufacturer: Uniroyal; Manufacturer Part Number: 181207F360KT4E; Supplier 1: LCSC; Supplier Part Number 1: C422097; JLCPCB Part Number: C422097; Power Rating: 750mW; Category: Resistors; Package Size: 1812; JLCPCB Basic Part: Yes; Tolerance: ±1%; Voltage Rating: 200V; Temperature Coefficient: ±400ppm/℃; Temperature Rating: -55℃~+155℃; ComponentLink1Description: Datasheet; ComponentLink1URL: https://wmsc.lcsc.com/wmsc/upload/file/pdf/v2/lcsc/2205312016_UNI-ROYAL-Uniroyal-Elec-181207F360KT4E_C422097.pdf; ComponentLink2Description: JLCPCB Part URL; ComponentLink2URL: https://jlcpcb.com/partdetail/C422097
pins: 1, 2
1 alternate drawing of the same symbol

## 181207F390JT4E
designator R?  Resistance: 39Ω  (hidden comment: *)
Resistor, 39Ω, ±1%, 750mW, 200V, ±100ppm/℃, -55℃~+155℃, SMD 1812; Manufacturer: Uniroyal; Manufacturer Part Number: 181207F390JT4E; Supplier 1: LCSC; Supplier Part Number 1: C422094; JLCPCB Part Number: C422094; Power Rating: 750mW; Category: Resistors; Package Size: 1812; JLCPCB Basic Part: Yes; Tolerance: ±1%; Voltage Rating: 200V; Temperature Coefficient: ±100ppm/℃; Temperature Rating: -55℃~+155℃; ComponentLink1Description: Datasheet; ComponentLink1URL: https://wmsc.lcsc.com/wmsc/upload/file/pdf/v2/lcsc/2205312016_UNI-ROYAL-Uniroyal-Elec-181207F390JT4E_C422094.pdf; ComponentLink2Description: JLCPCB Part URL; ComponentLink2URL: https://jlcpcb.com/partdetail/C422094
pins: 1, 2
1 alternate drawing of the same symbol

## 181207F390KT4E
designator R?  Resistance: 3.9Ω  (hidden comment: *)
Resistor, 3.9Ω, ±1%, 750mW, 200V, ±200ppm/℃, -55℃~+155℃, SMD 1812; Manufacturer: Uniroyal; Manufacturer Part Number: 181207F390KT4E; Supplier 1: LCSC; Supplier Part Number 1: C422093; JLCPCB Part Number: C422093; Power Rating: 750mW; Category: Resistors; Package Size: 1812; JLCPCB Basic Part: Yes; Tolerance: ±1%; Voltage Rating: 200V; Temperature Coefficient: ±200ppm/℃; Temperature Rating: -55℃~+155℃; ComponentLink1Description: Datasheet; ComponentLink1URL: https://wmsc.lcsc.com/wmsc/upload/file/pdf/v2/lcsc/2205312016_UNI-ROYAL-Uniroyal-Elec-181207F390KT4E_C422093.pdf; ComponentLink2Description: JLCPCB Part URL; ComponentLink2URL: https://jlcpcb.com/partdetail/C422093
pins: 1, 2
1 alternate drawing of the same symbol

## 181207F390LT4E
designator R?  Resistance: 390mΩ  (hidden comment: *)
Resistor, 390mΩ, ±1%, 750mW, 200V, -55℃~+155℃, SMD 1812; Manufacturer: Uniroyal; Manufacturer Part Number: 181207F390LT4E; Supplier 1: LCSC; Supplier Part Number 1: C422092; JLCPCB Part Number: C422092; Power Rating: 750mW; Category: Resistors; Package Size: 1812; JLCPCB Basic Part: Yes; Tolerance: ±1%; Voltage Rating: 200V; Temperature Rating: -55℃~+155℃; ComponentLink1Description: Datasheet; ComponentLink1URL: https://wmsc.lcsc.com/wmsc/upload/file/pdf/v2/lcsc/2211141030_UNI-ROYAL-Uniroyal-Elec-181207F390LT4E_C422092.pdf; ComponentLink2Description: JLCPCB Part URL; ComponentLink2URL: https://jlcpcb.com/partdetail/C422092
pins: 1, 2
1 alternate drawing of the same symbol

## 181207F470JT4E
designator R?  Resistance: 47Ω  (hidden comment: *)
Resistor, 47Ω, ±1%, 750mW, 200V, ±100ppm/℃, -55℃~+155℃, SMD 1812; Manufacturer: Uniroyal; Manufacturer Part Number: 181207F470JT4E; Supplier 1: LCSC; Supplier Part Number 1: C422084; JLCPCB Part Number: C422084; Power Rating: 750mW; Category: Resistors; Package Size: 1812; JLCPCB Basic Part: Yes; Tolerance: ±1%; Voltage Rating: 200V; Temperature Coefficient: ±100ppm/℃; Temperature Rating: -55℃~+155℃; ComponentLink1Description: Datasheet; ComponentLink1URL: https://wmsc.lcsc.com/wmsc/upload/file/pdf/v2/lcsc/2205312016_UNI-ROYAL-Uniroyal-Elec-181207F470JT4E_C422084.pdf; ComponentLink2Description: JLCPCB Part URL; ComponentLink2URL: https://jlcpcb.com/partdetail/C422084
pins: 1, 2
1 alternate drawing of the same symbol

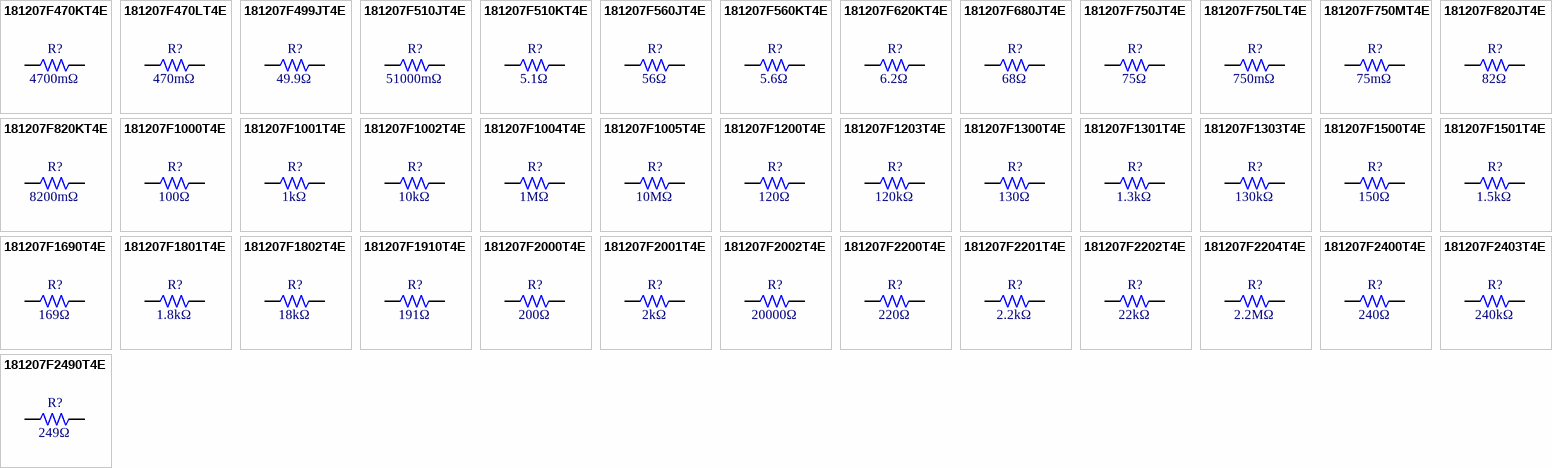
[diagram p1: symbols 181207F470KT4E to 181207F2490T4E]

## 181207F470KT4E
designator R?  Resistance: 4700mΩ  (hidden comment: *)
Resistor, 4700mΩ, ±1%, 750mW, 200V, ±400ppm/℃, -55℃~+155℃, SMD 1812; Manufacturer: Uniroyal; Manufacturer Part Number: 181207F470KT4E; Supplier 1: LCSC; Supplier Part Number 1: C422083; JLCPCB Part Number: C422083; Power Rating: 750mW; Category: Resistors; Package Size: 1812; JLCPCB Basic Part: Yes; Tolerance: ±1%; Voltage Rating: 200V; Temperature Coefficient: ±400ppm/℃; Temperature Rating: -55℃~+155℃; ComponentLink1Description: Datasheet; ComponentLink1URL: https://wmsc.lcsc.com/wmsc/upload/file/pdf/v2/lcsc/2304140030_UNI-ROYAL-Uniroyal-Elec-181207F470KT4E_C422083.pdf; ComponentLink2Description: JLCPCB Part URL; ComponentLink2URL: https://jlcpcb.com/partdetail/C422083
pins: 1, 2
1 alternate drawing of the same symbol

## 181207F470LT4E
designator R?  Resistance: 470mΩ  (hidden comment: *)
Resistor, 470mΩ, ±1%, 750mW, 200V, -55℃~+155℃, SMD 1812; Manufacturer: Uniroyal; Manufacturer Part Number: 181207F470LT4E; Supplier 1: LCSC; Supplier Part Number 1: C422082; JLCPCB Part Number: C422082; Power Rating: 750mW; Category: Resistors; Package Size: 1812; JLCPCB Basic Part: Yes; Tolerance: ±1%; Voltage Rating: 200V; Temperature Rating: -55℃~+155℃; ComponentLink1Description: Datasheet; ComponentLink1URL: https://wmsc.lcsc.com/wmsc/upload/file/pdf/v2/lcsc/2211141030_UNI-ROYAL-Uniroyal-Elec-181207F470LT4E_C422082.pdf; ComponentLink2Description: JLCPCB Part URL; ComponentLink2URL: https://jlcpcb.com/partdetail/C422082
pins: 1, 2
1 alternate drawing of the same symbol

## 181207F499JT4E
designator R?  Resistance: 49.9Ω  (hidden comment: *)
Resistor, 49.9Ω, ±1%, 750mW, 200V, ±100ppm/℃, -55℃~+155℃, SMD 1812; Manufacturer: Uniroyal; Manufacturer Part Number: 181207F499JT4E; Supplier 1: LCSC; Supplier Part Number 1: C422079; JLCPCB Part Number: C422079; Power Rating: 750mW; Category: Resistors; Package Size: 1812; JLCPCB Basic Part: Yes; Tolerance: ±1%; Voltage Rating: 200V; Temperature Coefficient: ±100ppm/℃; Temperature Rating: -55℃~+155℃; ComponentLink1Description: Datasheet; ComponentLink1URL: https://wmsc.lcsc.com/wmsc/upload/file/pdf/v2/lcsc/2205312016_UNI-ROYAL-Uniroyal-Elec-181207F499JT4E_C422079.pdf; ComponentLink2Description: JLCPCB Part URL; ComponentLink2URL: https://jlcpcb.com/partdetail/C422079
pins: 1, 2
1 alternate drawing of the same symbol

## 181207F510JT4E
designator R?  Resistance: 51000mΩ  (hidden comment: *)
Resistor, 51000mΩ, ±1%, 750mW, 200V, ±100ppm/℃, -55℃~+155℃, SMD 1812; Manufacturer: Uniroyal; Manufacturer Part Number: 181207F510JT4E; Supplier 1: LCSC; Supplier Part Number 1: C422077; JLCPCB Part Number: C422077; Power Rating: 750mW; Category: Resistors; Package Size: 1812; JLCPCB Basic Part: Yes; Tolerance: ±1%; Voltage Rating: 200V; Temperature Coefficient: ±100ppm/℃; Temperature Rating: -55℃~+155℃; ComponentLink1Description: Datasheet; ComponentLink1URL: https://wmsc.lcsc.com/wmsc/upload/file/pdf/v2/lcsc/2304140030_UNI-ROYAL-Uniroyal-Elec-181207F510JT4E_C422077.pdf; ComponentLink2Description: JLCPCB Part URL; ComponentLink2URL: https://jlcpcb.com/partdetail/C422077
pins: 1, 2
1 alternate drawing of the same symbol

## 181207F510KT4E
designator R?  Resistance: 5.1Ω  (hidden comment: *)
Resistor, 5.1Ω, ±1%, 750mW, 200V, ±400ppm/℃, -55℃~+155℃, SMD 1812; Manufacturer: Uniroyal; Manufacturer Part Number: 181207F510KT4E; Supplier 1: LCSC; Supplier Part Number 1: C84642; JLCPCB Part Number: C84642; Power Rating: 750mW; Category: Resistors; Package Size: 1812; JLCPCB Basic Part: Yes; Tolerance: ±1%; Voltage Rating: 200V; Temperature Coefficient: ±400ppm/℃; Temperature Rating: -55℃~+155℃; ComponentLink1Description: Datasheet; ComponentLink1URL: https://wmsc.lcsc.com/wmsc/upload/file/pdf/v2/lcsc/2205312316_UNI-ROYAL-Uniroyal-Elec-181207F510KT4E_C84642.pdf; ComponentLink2Description: JLCPCB Part URL; ComponentLink2URL: https://jlcpcb.com/partdetail/C84642
pins: 1, 2
1 alternate drawing of the same symbol

## 181207F560JT4E
designator R?  Resistance: 56Ω  (hidden comment: *)
Resistor, 56Ω, ±1%, 750mW, 200V, ±100ppm/℃, -55℃~+155℃, SMD 1812; Manufacturer: Uniroyal; Manufacturer Part Number: 181207F560JT4E; Supplier 1: LCSC; Supplier Part Number 1: C620699; JLCPCB Part Number: C620699; Power Rating: 750mW; Category: Resistors; Package Size: 1812; JLCPCB Basic Part: Yes; Tolerance: ±1%; Voltage Rating: 200V; Temperature Coefficient: ±100ppm/℃; Temperature Rating: -55℃~+155℃; ComponentLink1Description: Datasheet; ComponentLink1URL: https://wmsc.lcsc.com/wmsc/upload/file/pdf/v2/lcsc/2205311816_UNI-ROYAL-Uniroyal-Elec-181207F560JT4E_C620699.pdf; ComponentLink2Description: JLCPCB Part URL; ComponentLink2URL: https://jlcpcb.com/partdetail/C620699
pins: 1, 2
1 alternate drawing of the same symbol

## 181207F560KT4E
designator R?  Resistance: 5.6Ω  (hidden comment: *)
Resistor, 5.6Ω, ±1%, 750mW, 200V, ±200ppm/℃, -55℃~+155℃, SMD 1812; Manufacturer: Uniroyal; Manufacturer Part Number: 181207F560KT4E; Supplier 1: LCSC; Supplier Part Number 1: C422073; JLCPCB Part Number: C422073; Power Rating: 750mW; Category: Resistors; Package Size: 1812; JLCPCB Basic Part: Yes; Tolerance: ±1%; Voltage Rating: 200V; Temperature Coefficient: ±200ppm/℃; Temperature Rating: -55℃~+155℃; ComponentLink1Description: Datasheet; ComponentLink1URL: https://wmsc.lcsc.com/wmsc/upload/file/pdf/v2/lcsc/2205312016_UNI-ROYAL-Uniroyal-Elec-181207F560KT4E_C422073.pdf; ComponentLink2Description: JLCPCB Part URL; ComponentLink2URL: https://jlcpcb.com/partdetail/C422073
pins: 1, 2
1 alternate drawing of the same symbol

## 181207F620KT4E
designator R?  Resistance: 6.2Ω  (hidden comment: *)
Resistor, 6.2Ω, ±1%, 750mW, 200V, ±400ppm/℃, -55℃~+155℃, SMD 1812; Manufacturer: Uniroyal; Manufacturer Part Number: 181207F620KT4E; Supplier 1: LCSC; Supplier Part Number 1: C422064; JLCPCB Part Number: C422064; Power Rating: 750mW; Category: Resistors; Package Size: 1812; JLCPCB Basic Part: Yes; Tolerance: ±1%; Voltage Rating: 200V; Temperature Coefficient: ±400ppm/℃; Temperature Rating: -55℃~+155℃; ComponentLink1Description: Datasheet; ComponentLink1URL: https://wmsc.lcsc.com/wmsc/upload/file/pdf/v2/lcsc/2205312016_UNI-ROYAL-Uniroyal-Elec-181207F620KT4E_C422064.pdf; ComponentLink2Description: JLCPCB Part URL; ComponentLink2URL: https://jlcpcb.com/partdetail/C422064
pins: 1, 2
1 alternate drawing of the same symbol

## 181207F680JT4E
designator R?  Resistance: 68Ω  (hidden comment: *)
Resistor, 68Ω, ±1%, 750mW, 200V, ±100ppm/℃, -55℃~+155℃, SMD 1812; Manufacturer: Uniroyal; Manufacturer Part Number: 181207F680JT4E; Supplier 1: LCSC; Supplier Part Number 1: C841005; JLCPCB Part Number: C841005; Power Rating: 750mW; Category: Resistors; Package Size: 1812; JLCPCB Basic Part: Yes; Tolerance: ±1%; Voltage Rating: 200V; Temperature Coefficient: ±100ppm/℃; Temperature Rating: -55℃~+155℃; ComponentLink1Description: Datasheet; ComponentLink1URL: https://wmsc.lcsc.com/wmsc/upload/file/pdf/v2/lcsc/2206011045_UNI-ROYAL-Uniroyal-Elec-181207F680JT4E_C841005.pdf; ComponentLink2Description: JLCPCB Part URL; ComponentLink2URL: https://jlcpcb.com/partdetail/C841005
pins: 1, 2
1 alternate drawing of the same symbol

## 181207F750JT4E
designator R?  Resistance: 75Ω  (hidden comment: *)
Resistor, 75Ω, ±1%, 750mW, 200V, ±100ppm/℃, -55℃~+155℃, SMD 1812; Manufacturer: Uniroyal; Manufacturer Part Number: 181207F750JT4E; Supplier 1: LCSC; Supplier Part Number 1: C422053; JLCPCB Part Number: C422053; Power Rating: 750mW; Category: Resistors; Package Size: 1812; JLCPCB Basic Part: Yes; Tolerance: ±1%; Voltage Rating: 200V; Temperature Coefficient: ±100ppm/℃; Temperature Rating: -55℃~+155℃; ComponentLink1Description: Datasheet; ComponentLink1URL: https://wmsc.lcsc.com/wmsc/upload/file/pdf/v2/lcsc/2205312016_UNI-ROYAL-Uniroyal-Elec-181207F750JT4E_C422053.pdf; ComponentLink2Description: JLCPCB Part URL; ComponentLink2URL: https://jlcpcb.com/partdetail/C422053
pins: 1, 2
1 alternate drawing of the same symbol

## 181207F750LT4E
designator R?  Resistance: 750mΩ  (hidden comment: *)
Resistor, 750mΩ, ±1%, 750mW, 200V, -55℃~+155℃, SMD 1812; Manufacturer: Uniroyal; Manufacturer Part Number: 181207F750LT4E; Supplier 1: LCSC; Supplier Part Number 1: C422051; JLCPCB Part Number: C422051; Power Rating: 750mW; Category: Resistors; Package Size: 1812; JLCPCB Basic Part: Yes; Tolerance: ±1%; Voltage Rating: 200V; Temperature Rating: -55℃~+155℃; ComponentLink1Description: Datasheet; ComponentLink1URL: https://wmsc.lcsc.com/wmsc/upload/file/pdf/v2/lcsc/2211141030_UNI-ROYAL-Uniroyal-Elec-181207F750LT4E_C422051.pdf; ComponentLink2Description: JLCPCB Part URL; ComponentLink2URL: https://jlcpcb.com/partdetail/C422051
pins: 1, 2
1 alternate drawing of the same symbol

## 181207F750MT4E
designator R?  Resistance: 75mΩ  (hidden comment: *)
Resistor, 75mΩ, ±1%, 750mW, 200V, ±800ppm/℃, -55℃~+155℃, SMD 1812; Manufacturer: Uniroyal; Manufacturer Part Number: 181207F750MT4E; Supplier 1: LCSC; Supplier Part Number 1: C2768456; JLCPCB Part Number: C2768456; Power Rating: 750mW; Category: Resistors; Package Size: 1812; JLCPCB Basic Part: Yes; Tolerance: ±1%; Voltage Rating: 200V; Temperature Coefficient: ±800ppm/℃; Temperature Rating: -55℃~+155℃; ComponentLink1Description: Datasheet; ComponentLink1URL: https://wmsc.lcsc.com/wmsc/upload/file/pdf/v2/lcsc/2206011000_UNI-ROYAL-Uniroyal-Elec-181207F750MT4E_C2768456.pdf; ComponentLink2Description: JLCPCB Part URL; ComponentLink2URL: https://jlcpcb.com/partdetail/C2768456
pins: 1, 2
1 alternate drawing of the same symbol

## 181207F820JT4E
designator R?  Resistance: 82Ω  (hidden comment: *)
Resistor, 82Ω, ±1%, 750mW, 200V, ±100ppm/℃, -55℃~+155℃, SMD 1812; Manufacturer: Uniroyal; Manufacturer Part Number: 181207F820JT4E; Supplier 1: LCSC; Supplier Part Number 1: C422050; JLCPCB Part Number: C422050; Power Rating: 750mW; Category: Resistors; Package Size: 1812; JLCPCB Basic Part: Yes; Tolerance: ±1%; Voltage Rating: 200V; Temperature Coefficient: ±100ppm/℃; Temperature Rating: -55℃~+155℃; ComponentLink1Description: Datasheet; ComponentLink1URL: https://wmsc.lcsc.com/wmsc/upload/file/pdf/v2/lcsc/2205312016_UNI-ROYAL-Uniroyal-Elec-181207F820JT4E_C422050.pdf; ComponentLink2Description: JLCPCB Part URL; ComponentLink2URL: https://jlcpcb.com/partdetail/C422050
pins: 1, 2
1 alternate drawing of the same symbol

## 181207F820KT4E
designator R?  Resistance: 8200mΩ  (hidden comment: *)
Resistor, 8200mΩ, ±1%, 750mW, 200V, ±200ppm/℃, -55℃~+155℃, SMD 1812; Manufacturer: Uniroyal; Manufacturer Part Number: 181207F820KT4E; Supplier 1: LCSC; Supplier Part Number 1: C422049; JLCPCB Part Number: C422049; Power Rating: 750mW; Category: Resistors; Package Size: 1812; JLCPCB Basic Part: Yes; Tolerance: ±1%; Voltage Rating: 200V; Temperature Coefficient: ±200ppm/℃; Temperature Rating: -55℃~+155℃; ComponentLink1Description: Datasheet; ComponentLink1URL: https://wmsc.lcsc.com/wmsc/upload/file/pdf/v2/lcsc/2205312016_UNI-ROYAL-Uniroyal-Elec-181207F820KT4E_C422049.pdf; ComponentLink2Description: JLCPCB Part URL; ComponentLink2URL: https://jlcpcb.com/partdetail/C422049
pins: 1, 2
1 alternate drawing of the same symbol

## 181207F1000T4E
designator R?  Resistance: 100Ω  (hidden comment: *)
Resistor, 100Ω, ±1%, 750mW, 200V, ±100ppm/℃, -55℃~+155℃, SMD 1812; Manufacturer: Uniroyal; Manufacturer Part Number: 181207F1000T4E; Supplier 1: LCSC; Supplier Part Number 1: C63036; JLCPCB Part Number: C63036; Power Rating: 750mW; Category: Resistors; Package Size: 1812; JLCPCB Basic Part: Yes; Tolerance: ±1%; Voltage Rating: 200V; Temperature Coefficient: ±100ppm/℃; Temperature Rating: -55℃~+155℃; ComponentLink1Description: Datasheet; ComponentLink1URL: https://wmsc.lcsc.com/wmsc/upload/file/pdf/v2/lcsc/2205312345_UNI-ROYAL-Uniroyal-Elec-181207F1000T4E_C63036.pdf; ComponentLink2Description: JLCPCB Part URL; ComponentLink2URL: https://jlcpcb.com/partdetail/C63036
pins: 1, 2
1 alternate drawing of the same symbol

## 181207F1001T4E
designator R?  Resistance: 1kΩ  (hidden comment: *)
Resistor, 1kΩ, ±1%, 750mW, 200V, ±100ppm/℃, -55℃~+155℃, SMD 1812; Manufacturer: Uniroyal; Manufacturer Part Number: 181207F1001T4E; Supplier 1: LCSC; Supplier Part Number 1: C21618; JLCPCB Part Number: C21618; Power Rating: 750mW; Category: Resistors; Package Size: 1812; JLCPCB Basic Part: Yes; Tolerance: ±1%; Voltage Rating: 200V; Temperature Coefficient: ±100ppm/℃; Temperature Rating: -55℃~+155℃; ComponentLink1Description: Datasheet; ComponentLink1URL: https://wmsc.lcsc.com/wmsc/upload/file/pdf/v2/lcsc/2206010130_UNI-ROYAL-Uniroyal-Elec-181207F1001T4E_C21618.pdf; ComponentLink2Description: JLCPCB Part URL; ComponentLink2URL: https://jlcpcb.com/partdetail/C21618
pins: 1, 2
1 alternate drawing of the same symbol

## 181207F1002T4E
designator R?  Resistance: 10kΩ  (hidden comment: *)
Resistor, 10kΩ, ±1%, 750mW, 200V, -55℃~+155℃, SMD 1812; Manufacturer: Uniroyal; Manufacturer Part Number: 181207F1002T4E; Supplier 1: LCSC; Supplier Part Number 1: C407137; JLCPCB Part Number: C407137; Power Rating: 750mW; Category: Resistors; Package Size: 1812; JLCPCB Basic Part: Yes; Tolerance: ±1%; Voltage Rating: 200V; Temperature Rating: -55℃~+155℃; ComponentLink1Description: Datasheet; ComponentLink2Description: JLCPCB Part URL; ComponentLink2URL: https://jlcpcb.com/partdetail/C407137
pins: 1, 2
1 alternate drawing of the same symbol

## 181207F1004T4E
designator R?  Resistance: 1MΩ  (hidden comment: *)
Resistor, 1MΩ, ±1%, 750mW, 200V, ±100ppm/℃, -55℃~+155℃, SMD 1812; Manufacturer: Uniroyal; Manufacturer Part Number: 181207F1004T4E; Supplier 1: LCSC; Supplier Part Number 1: C422159; JLCPCB Part Number: C422159; Power Rating: 750mW; Category: Resistors; Package Size: 1812; JLCPCB Basic Part: Yes; Tolerance: ±1%; Voltage Rating: 200V; Temperature Coefficient: ±100ppm/℃; Temperature Rating: -55℃~+155℃; ComponentLink1Description: Datasheet; ComponentLink1URL: https://wmsc.lcsc.com/wmsc/upload/file/pdf/v2/lcsc/2205312245_UNI-ROYAL-Uniroyal-Elec-181207F1004T4E_C422159.pdf; ComponentLink2Description: JLCPCB Part URL; ComponentLink2URL: https://jlcpcb.com/partdetail/C422159
pins: 1, 2
1 alternate drawing of the same symbol

## 181207F1005T4E
designator R?  Resistance: 10MΩ  (hidden comment: *)
Resistor, 10MΩ, ±1%, 750mW, 200V, ±100ppm/℃, -55℃~+155℃, SMD 1812; Manufacturer: Uniroyal; Manufacturer Part Number: 181207F1005T4E; Supplier 1: LCSC; Supplier Part Number 1: C422158; JLCPCB Part Number: C422158; Power Rating: 750mW; Category: Resistors; Package Size: 1812; JLCPCB Basic Part: Yes; Tolerance: ±1%; Voltage Rating: 200V; Temperature Coefficient: ±100ppm/℃; Temperature Rating: -55℃~+155℃; ComponentLink1Description: Datasheet; ComponentLink1URL: https://wmsc.lcsc.com/wmsc/upload/file/pdf/v2/lcsc/2205312245_UNI-ROYAL-Uniroyal-Elec-181207F1005T4E_C422158.pdf; ComponentLink2Description: JLCPCB Part URL; ComponentLink2URL: https://jlcpcb.com/partdetail/C422158
pins: 1, 2
1 alternate drawing of the same symbol

## 181207F1200T4E
designator R?  Resistance: 120Ω  (hidden comment: *)
Resistor, 120Ω, ±1%, 750mW, 200V, ±100ppm/℃, -55℃~+155℃, SMD 1812; Manufacturer: Uniroyal; Manufacturer Part Number: 181207F1200T4E; Supplier 1: LCSC; Supplier Part Number 1: C43730; JLCPCB Part Number: C43730; Power Rating: 750mW; Category: Resistors; Package Size: 1812; JLCPCB Basic Part: Yes; Tolerance: ±1%; Voltage Rating: 200V; Temperature Coefficient: ±100ppm/℃; Temperature Rating: -55℃~+155℃; ComponentLink1Description: Datasheet; ComponentLink1URL: https://wmsc.lcsc.com/wmsc/upload/file/pdf/v2/lcsc/2206010030_UNI-ROYAL-Uniroyal-Elec-181207F1200T4E_C43730.pdf; ComponentLink2Description: JLCPCB Part URL; ComponentLink2URL: https://jlcpcb.com/partdetail/C43730
pins: 1, 2
1 alternate drawing of the same symbol

## 181207F1203T4E
designator R?  Resistance: 120kΩ  (hidden comment: *)
Resistor, 120kΩ, ±1%, 750mW, 200V, ±100ppm/℃, -55℃~+155℃, SMD 1812; Manufacturer: Uniroyal; Manufacturer Part Number: 181207F1203T4E; Supplier 1: LCSC; Supplier Part Number 1: C422154; JLCPCB Part Number: C422154; Power Rating: 750mW; Category: Resistors; Package Size: 1812; JLCPCB Basic Part: Yes; Tolerance: ±1%; Voltage Rating: 200V; Temperature Coefficient: ±100ppm/℃; Temperature Rating: -55℃~+155℃; ComponentLink1Description: Datasheet; ComponentLink1URL: https://wmsc.lcsc.com/wmsc/upload/file/pdf/v2/lcsc/2205312245_UNI-ROYAL-Uniroyal-Elec-181207F1203T4E_C422154.pdf; ComponentLink2Description: JLCPCB Part URL; ComponentLink2URL: https://jlcpcb.com/partdetail/C422154
pins: 1, 2
1 alternate drawing of the same symbol

## 181207F1300T4E
designator R?  Resistance: 130Ω  (hidden comment: *)
Resistor, 130Ω, ±1%, 750mW, 200V, ±100ppm/℃, -55℃~+155℃, SMD 1812; Manufacturer: Uniroyal; Manufacturer Part Number: 181207F1300T4E; Supplier 1: LCSC; Supplier Part Number 1: C422152; JLCPCB Part Number: C422152; Power Rating: 750mW; Category: Resistors; Package Size: 1812; JLCPCB Basic Part: Yes; Tolerance: ±1%; Voltage Rating: 200V; Temperature Coefficient: ±100ppm/℃; Temperature Rating: -55℃~+155℃; ComponentLink1Description: Datasheet; ComponentLink1URL: https://wmsc.lcsc.com/wmsc/upload/file/pdf/v2/lcsc/2205312245_UNI-ROYAL-Uniroyal-Elec-181207F1300T4E_C422152.pdf; ComponentLink2Description: JLCPCB Part URL; ComponentLink2URL: https://jlcpcb.com/partdetail/C422152
pins: 1, 2
1 alternate drawing of the same symbol

## 181207F1301T4E
designator R?  Resistance: 1.3kΩ  (hidden comment: *)
Resistor, 1.3kΩ, ±1%, 750mW, 200V, ±100ppm/℃, -55℃~+155℃, SMD 1812; Manufacturer: Uniroyal; Manufacturer Part Number: 181207F1301T4E; Supplier 1: LCSC; Supplier Part Number 1: C422151; JLCPCB Part Number: C422151; Power Rating: 750mW; Category: Resistors; Package Size: 1812; JLCPCB Basic Part: Yes; Tolerance: ±1%; Voltage Rating: 200V; Temperature Coefficient: ±100ppm/℃; Temperature Rating: -55℃~+155℃; ComponentLink1Description: Datasheet; ComponentLink1URL: https://wmsc.lcsc.com/wmsc/upload/file/pdf/v2/lcsc/2205312245_UNI-ROYAL-Uniroyal-Elec-181207F1301T4E_C422151.pdf; ComponentLink2Description: JLCPCB Part URL; ComponentLink2URL: https://jlcpcb.com/partdetail/C422151
pins: 1, 2
1 alternate drawing of the same symbol